# Altium schematic symbol library AD8063ART.SchLib: 1 symbol
Pins are listed as number, name and electrical type; pins without a type are passive.

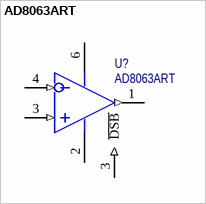
[diagram p0: symbol AD8063ART]

## AD8063ART
designator U?
Rail-to-Rail Amplifiers, 8.5 nV/√Hz, 6.8 mA, 300 MHz; Потребление, Вт: 0,01; Назначение: Rail-to-Rail Amplifiers, 8.5 nV/√Hz, 6.8 mA, 300 MHz; ComponentLink1Description: DataSheet; ComponentLink1URL: https://www.analog.com/media/en/technical-documentation/data-sheets/AD8061_8062_8063.pdf; Наименование: AD8063ART
footprint SOT23-6
pins: 1 OUT (out), 2 V- (power), 3 IN+ (in), 3 ~{DSB} (in), 4 IN- (in), 6 V+ (power)